# Altium schematic symbol library MP1484EN-LF.SchLib: 1 symbol
Pins are listed as number, name and electrical type; pins without a type are passive.

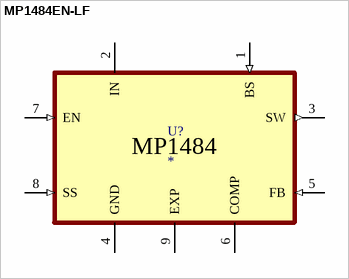
[diagram p0: symbol MP1484EN-LF]

## MP1484EN-LF
designator U?
Ic Reg Buck Adj 3a Sync 8soic; MP: MP1484EN-LF; Package: None; Price: None; Value: *; Availability: Unavailable
footprint SOIC127P600X170-9N
pins: 1 BS (in), 2 IN (power), 3 SW (out), 4 GND (power), 5 FB (in), 6 COMP, 7 EN (in), 8 SS (in), 9 EXP (power)
text: MP1484